# Altium footprint library EVQ-P7J01P.PcbLib: 1 footprints
Each footprint in its own frame and in the unit in brackets; x right, y up, seen from the top. Pads: shape width x height; smd on the part's side, far side on the other; paste and mask are expansions set on the pad; w line width, h text height; cw(c..) or ccw(c..) is an arc to the next point about the centre after c.
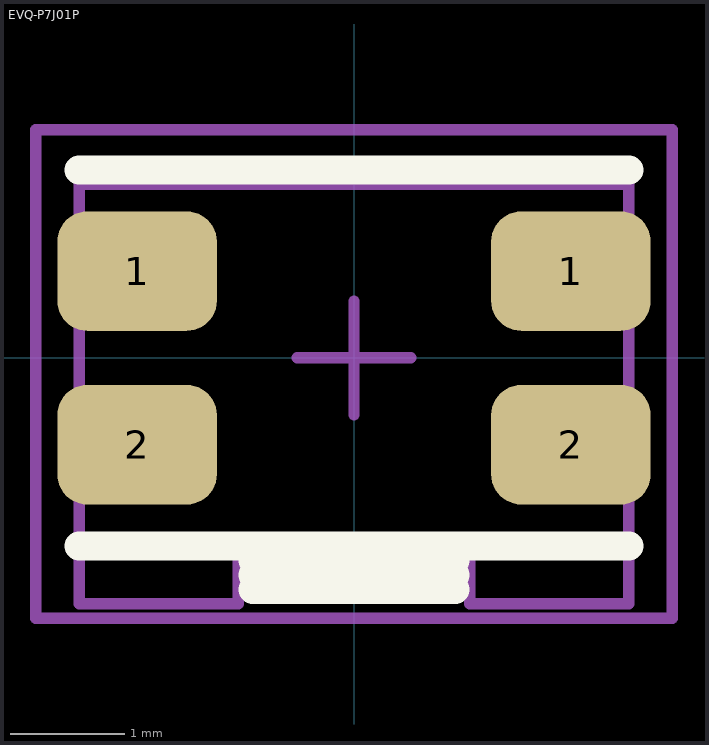
[diagram p0: the footprint, top view; thin cyan lines are the x and y axes]

## EVQ-P7J01P [mm]
pads (4):
  rrect50% 1.4x1.05 smd: 1(-1.905,0.762) 1(1.905,0.762) 2(-1.905,-0.762) 2(1.905,-0.762)
Top Overlay:
  lines w0.254: -2.413,-1.651 2.413,-1.651 ; -2.413,1.651 2.413,1.651 ; -0.889,-2.032 0,-2.032 0.889,-2.032 ; -0.889,-1.905 0,-1.905 0.889,-1.905 ; -0.889,-1.778 0,-1.778 0.889,-1.778
Top Assembly:
  lines w0.1: -2.413,-2.159 -2.413,1.524 2.413,1.524 2.413,-2.159 1.016,-2.159 1.016,-1.651 -1.016,-1.651 -1.016,-2.159 -2.413,-2.159
  text "'.Designator'" at -1.778,0.762 h0.3
Top Courtyard:
  lines w0.1: -0.5,0 0.5,0 ; 0,-0.5 0,0.5 ; -2.794,-2.286 -2.794,2.004 2.794,2.004 2.794,-2.286 -2.794,-2.286
3D body "EVQ-P7J01P--3DModel-STEP-56544.STEP": height 1.35, standoff 0, extent -2.35,-2.1 2.35,1.45